# Altium footprint library capacitor.PcbLib: 8 footprints
Each footprint in its own frame and in the unit in brackets; x right, y up, seen from the top. Pads: shape width x height; smd on the part's side, far side on the other; paste and mask are expansions set on the pad; w line width, h text height; cw(c..) or ccw(c..) is an arc to the next point about the centre after c.
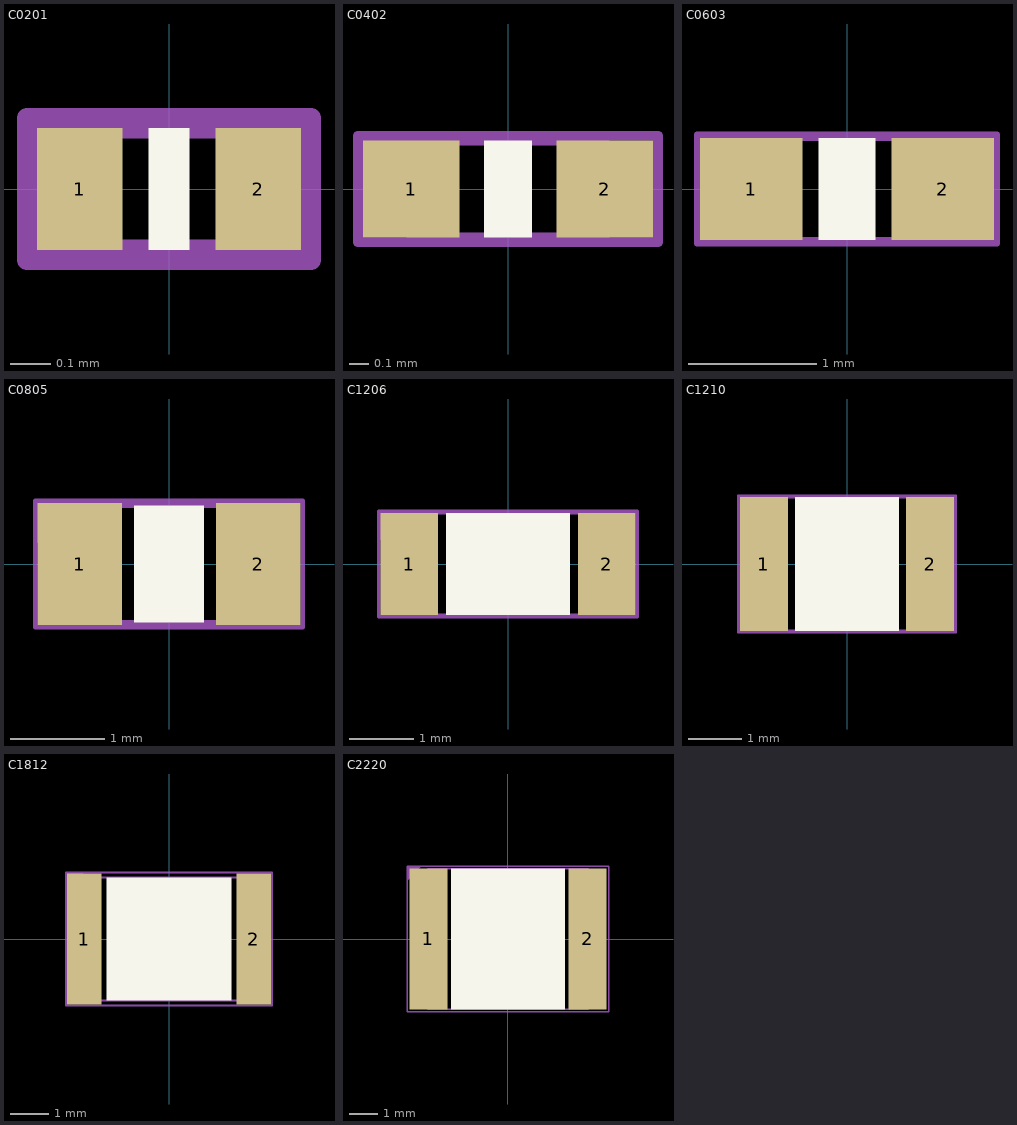
[diagram p0: the footprints below, top view; thin cyan lines are the x and y axes]

## C0201 [mm]
pads (2):
  rect 0.21x0.3 smd: 1(-0.22,0) 2(0.22,0)
Top Overlay:
  rectangle: -0.05,-0.15 0.05,0.15
Top 3D Body:
  lines w0.05: -0.3,-0.15 0.3,-0.15 0.3,0.15 -0.3,0.15 -0.3,-0.15
Top Courtyard:
  region: -0.35,0.175 -0.175,0.175 -0.35,0
  lines w0.05: -0.35,-0.175 0.35,-0.175 0.35,0.175 -0.35,0.175 -0.35,-0.175
Top Designator:
  text ".Designator" at -0.3,-0.05 h0.17
3D body: height 0.33, standoff 0, extent -0.2,-0.15 0.2,0.15
3D body: height 0.33, standoff 0, extent 0.2,-0.15 0.3,0.15
3D body: height 0.33, standoff 0, extent -0.3,-0.15 -0.2,0.15

## C0402 [mm]
pads (2):
  rect 0.5x0.5 smd: 1(-0.5,0) 2(0.5,0)
Top Overlay:
  rectangle: -0.125,-0.25 0.125,0.25
Top 3D Body:
  lines w0.05: -0.5,-0.25 -0.5,0.25 0.5,0.25 0.5,-0.25 -0.5,-0.25
Top Courtyard:
  region: -0.775,0.275 -0.5,0.275 -0.775,0
  lines w0.05: -0.775,-0.275 -0.775,0.275 0.775,0.275 0.775,-0.275 -0.775,-0.275
Top Designator:
  text ".Designator" at -0.675,-0.2 h0.4
3D body: height 0.6, standoff 0, extent -0.5,-0.25 -0.4,0.25
3D body: height 0.6, standoff 0, extent 0.4,-0.25 0.5,0.25
3D body: height 0.6, standoff 0, extent -0.4,-0.25 0.4,0.25

## C0603 [mm]
pads (2):
  rect 0.8x0.8 smd: 1(-0.75,0) 2(0.75,0)
Top Overlay:
  rectangle: -0.225,-0.4 0.225,0.4
Top 3D Body:
  lines w0.05: -0.8,-0.4 0.8,-0.4 0.8,0.4 -0.8,0.4 -0.8,-0.4
Top Courtyard:
  region: -1.175,0.425 -0.75,0.425 -1.175,0
  lines w0.05: -1.175,-0.425 1.175,-0.425 1.175,0.425 -1.175,0.425 -1.175,-0.425
Top Designator:
  text ".Designator" at -1.025,-0.15 h0.48
3D body: height 1, standoff 0, extent -0.6,-0.4 0.6,0.4
3D body: height 1, standoff 0, extent 0.6,-0.4 0.8,0.4
3D body: height 1, standoff 0, extent -0.8,-0.4 -0.6,0.4

## C0805 [mm]
pads (2):
  rect 0.9x1.3 smd: 1(-0.95,0) 2(0.95,0)
Top Overlay:
  rectangle: -0.375,-0.625 0.375,0.625
Top 3D Body:
  lines w0.05: -1,-0.625 -1,0.625 1,0.625 1,-0.625 -1,-0.625
Top Courtyard:
  region: -1.425,0.675 -0.95,0.675 -1.425,0.2
  lines w0.05: -1.425,-0.675 -1.425,0.675 1.425,0.675 1.425,-0.675 -1.425,-0.675
Top Designator:
  text ".Designator" at -1.25,-0.25 h0.72
3D body: height 1.45, standoff 0, extent -1,-0.625 -0.8,0.625
3D body: height 1.45, standoff 0, extent 0.8,-0.625 1,0.625
3D body: height 1.45, standoff 0, extent -0.8,-0.625 0.8,0.625

## C1206 [mm]
pads (2):
  rect 0.9x1.6 smd: 1(-1.55,0) 2(1.55,0)
Top Overlay:
  rectangle: -0.975,-0.8 0.975,0.8
Top 3D Body:
  lines w0.05: -1.6,-0.8 -1.6,0.8 1.6,0.8 1.6,-0.8 -1.6,-0.8
Top Courtyard:
  region: -2.025,0.825 -1.55,0.825 -2.025,0.35
  lines w0.05: -2.025,-0.825 -2.025,0.825 2.025,0.825 2.025,-0.825 -2.025,-0.825
Top Designator:
  text ".Designator" at -1.85,-0.25 h0.72
3D body: height 1.9, standoff 0, extent -1.6,-0.8 -1.4,0.8
3D body: height 1.9, standoff 0, extent 1.4,-0.8 1.6,0.8
3D body: height 1.9, standoff 0, extent -1.4,-0.8 1.4,0.8

## C1210 [mm]
pads (2):
  rect 0.9x2.5 smd: 1(-1.55,0) 2(1.55,0)
Top Overlay:
  rectangle: -0.975,-1.25 0.975,1.25
Top 3D Body:
  lines w0.05: -1.6,-1.25 1.6,-1.25 1.6,1.25 -1.6,1.25 -1.6,-1.25
Top Courtyard:
  region: -2.025,1.275 -1.55,1.275 -2.025,0.8
  lines w0.05: -2.025,-1.275 2.025,-1.275 2.025,1.275 -2.025,1.275 -2.025,-1.275
Top Designator:
  text ".Designator" at -1.875,-0.325 h0.72
3D body: height 2.8, standoff 0, extent -1.4,-1.25 1.4,1.25
3D body: height 2.8, standoff 0, extent 1.4,-1.25 1.6,1.25
3D body: height 2.8, standoff 0, extent -1.6,-1.25 -1.4,1.25

## C1812 [mm]
pads (2):
  rect 0.9x3.4 smd: 1(-2.2,0) 2(2.2,0)
Top Overlay:
  rectangle: -1.625,-1.6 1.625,1.6
Top 3D Body:
  lines w0.05: -2.25,-1.6 -2.25,1.6 2.25,1.6 2.25,-1.6 -2.25,-1.6
Top Courtyard:
  region: -2.675,1.725 -2.2,1.725 -2.675,1.25
  lines w0.05: -2.675,-1.725 -2.675,1.725 2.675,1.725 2.675,-1.725 -2.675,-1.725
Top Designator:
  text ".Designator" at -2.5,-0.35 h0.72
3D body: height 3.5, standoff 0, extent -2.25,-1.6 -2.05,1.6
3D body: height 3.5, standoff 0, extent 2.05,-1.6 2.25,1.6
3D body: height 3.5, standoff 0, extent -2.05,-1.6 2.05,1.6

## C2220 [mm]
pads (2):
  rect 1.35x5 smd: 1(-2.825,0) 2(2.825,0)
Top Overlay:
  rectangle: -2.032,-2.5 2.032,2.5
Top 3D Body:
  lines w0.05: -2.85,-2.5 -2.85,2.5 2.85,2.5 2.85,-2.5 -2.85,-2.5
Top Courtyard:
  region: -3.575,2.575 -3.075,2.575 -3.575,2.075
  lines w0.05: -3.575,-2.575 -3.575,2.575 3.575,2.575 3.575,-2.575 -3.575,-2.575
Top Designator:
  text ".Designator" at -3.04,-0.54 h1.08
3D body: height 2.8, standoff 0, extent -2.85,-2.5 -2.65,2.5
3D body: height 2.8, standoff 0, extent 2.65,-2.5 2.85,2.5
3D body: height 2.8, standoff 0, extent -2.65,-2.5 2.65,2.5